# Altium schematic symbol library Transformers.SchLib: 1 symbol
Pins are listed as number, name and electrical type; pins without a type are passive.

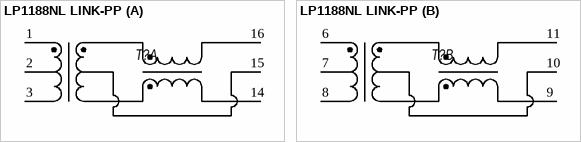
[diagram p0: symbol LP1188NL LINK-PP]

## LP1188NL LINK-PP
designator T?  (value not drawn)
footprint LP1188NL
part A pins: 1, 2, 3, 14, 15, 16
part B pins: 6, 7, 8, 9, 10, 11